# Altium integrated library Production_v4.IntLib: 6 symbols
Pins are listed as number, name and electrical type; pins without a type are passive.

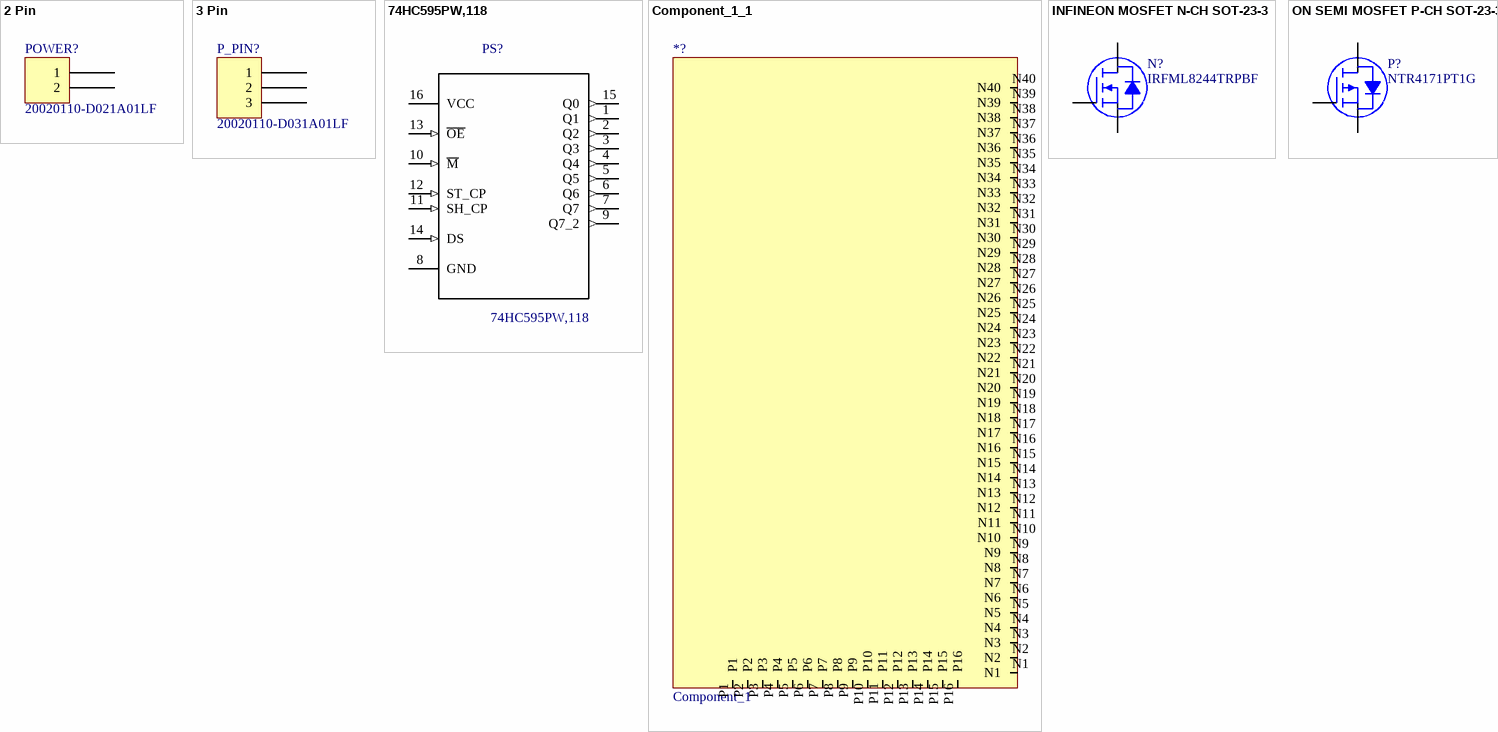
[diagram p0: symbols 2 Pin to ON SEMI MOSFET P-CH SOT-23-3]

## 2 Pin
designator POWER?, comment 20020110-D021A01LF
TERM BLOCK HDR 2POS R/A 3.81MM; Manufacturer: FCI; TemperatureRange: -40C ~ 115C; Voltage: 300V; Pitch: 0.150" (3.81mm); Number Of Positions: 2; Number Of Levels: 1; Part Number: 20020110-D021A01LF; PartId: 7785; Supplier 1: Digi-Key; Supplier Part Number 1: 609-3819-ND; ComponentLink1Description: Datasheet; ComponentLink1URL: http://portal.fciconnect.com/Comergent//fci/drawing/20020110.pdf; ComponentLink2Description: Digi-Key Listing; ComponentLink2URL: http://www.digikey.ca/product-detail/en/20020110-D021A01LF/609-3819-ND/2261255; Price: .75; Type: Through Hole; Colour: Green; Orientation: 90, Right Angle; Positions Per Level: 2
footprint FCI 06-381-2PIN
pins: 1, 2

## 3 Pin
designator P_PIN?, comment 20020110-D031A01LF
TERM BLOCK HDR 3POS R/A 3.81MM; Manufacturer: FCI; TemperatureRange: -40C ~ 115C; Voltage: 300V; Pitch: 0.150" (3.81mm); Number Of Positions: 3; Number Of Levels: 1; Part Number: 20020110-D031A01LF; PartId: 7786; Supplier 1: Digi-Key; Supplier Part Number 1: 609-3820-ND; ComponentLink1Description: Datasheet; ComponentLink1URL: http://portal.fciconnect.com/Comergent//fci/drawing/20020110.pdf; ComponentLink2Description: Digi-Key Listing; ComponentLink2URL: http://www.digikey.ca/product-detail/en/20020110-D031A01LF/609-3820-ND/2261261; Price: 1.12; Type: Through Hole; Colour: Green; Orientation: 90, Right Angle; Positions Per Level: 3
footprint FCI 06-381-3PIN
pins: 1, 2, 3

## 74HC595PW,118
designator PS?
8-bit serial-in%2C serial or parallel-out shift register with output latches%3B 3-state; MF: NXP Semiconductors; MP: 74HC595PW,118; Price: 0.17 USD; Availability: Good; Package: TSSOP-16 NXP Semiconductors; Value: *
footprint SOP65P640X110-16N
pins: 1 Q1 (out), 2 Q2 (out), 3 Q3 (out), 4 Q4 (out), 5 Q5 (out), 6 Q6 (out), 7 Q7 (out), 8 GND, 9 Q7_2 (out), 10 M~{} (in), 11 SH_CP (in), 12 ST_CP (in), 13 ~{OE} (in), 14 DS (in), 15 Q0 (out), 16 VCC (power)

## Component_1_1
designator *?, comment Component_1
footprint PCBComponent_1
pins: N1, N2, N3, N4, N5, N6, N7, N8, N9, N10, N11, N12, N13, N14, N15, N16, N17, N18, N19, N20, N21, N22, N23, N24, N25, N26, N27, N28, N29, N30, N31, N32, N33, N34, N35, N36, N37, N38, N39, N40, P1, P2, P3, P4, P5, P6, P7, P8, P9, P10, P11, P12, P13, P14, P15, P16

## INFINEON MOSFET N-CH SOT-23-3
designator N?, comment IRFML8244TRPBF
MOSFET N-CH 25V 5.8A SOT23; Manufacturer: Infineon Technologies; Rds On (Max) at Id, Vgs: 24 mOhm @ 5.8A, 10V; Vgs(th) (Max) at Id: 20V; Gate Charge (Qg): 5.4nC @ 10V; Input Capacitance (Ciss) at Vds: 430pF @ 10V; Current Continuous Drain: 5.8A (Ta); Part Number: IRFML8244TRPBF; PartId: 29462; Supplier 1: Digi-Key; Supplier Part Number 1: IRFML8244TRPBFCT-ND; ComponentLink1Description: Datasheet; ComponentLink1URL: http://www.irf.com/product-info/datasheets/data/irfml8244pbf.pdf; ComponentLink2Description: Digi-Key Listing; ComponentLink2URL: https://www.digikey.com/product-detail/en/infineon-technologies/IRFML8244TRPBF/IRFML8244TRPBFCT-ND/2538166; Price: .67; Type: N-Channel; Device Package: TO-236-3, SC-59, SOT-23-3; Drain to Source Voltage (Vdss): 25V
footprint INFINEON SOT-23-3
pins: 1 G, 2 D, 3 S

## ON SEMI MOSFET P-CH SOT-23-3
designator P?, comment NTR4171PT1G
MOSFET P-CH 30V 2.2A SOT23; Manufacturer: ON Semiconductor; Rds On (Max) at Id, Vgs: 75 mOhm @ 2.2A, 10V; Vgs(th) (Max) at Id: 1.4V @ 250uA; Gate Charge (Qg): 15.6nC @ 10V; Input Capacitance (Ciss) at Vds: 720pF @ 15V; Power - Max: 480mW; Current Continuous Drain: 2.2A (Ta); Part Number: NTR4171PT1G; PartId: 8195; Supplier 1: Digi-Key; Supplier Part Number 1: NTR4171PT1GOSTR-ND; ComponentLink1Description: Datasheet; ComponentLink1URL: http://www.onsemi.com/pub_link/Collateral/NTR4171P-D.PDF; ComponentLink2Description: Digi-Key Listing; ComponentLink2URL: http://www.digikey.com/product-detail/en/NTR4171PT1G/NTR4171PT1GOSTR-ND/2050558; Price: .1024; Type: MOSFET P-Channel, Metal Oxide; Device Package: TO-236-3, SC-59, SOT-23-3; Drain to Source Voltage (Vdss): 30V; Features: Standard
footprint ON SEMI SOT-23-3
pins: 1 G, 2 D, 3 S